# Altium footprint library SWITCH_TACT_PUSHB.PcbLib: 55 footprints (part 4 of 4)
Each footprint in its own frame and in the unit in brackets; x right, y up, seen from the top. Pads: shape width x height; smd on the part's side, far side on the other; paste and mask are expansions set on the pad; w line width, h text height; cw(c..) or ccw(c..) is an arc to the next point about the centre after c.
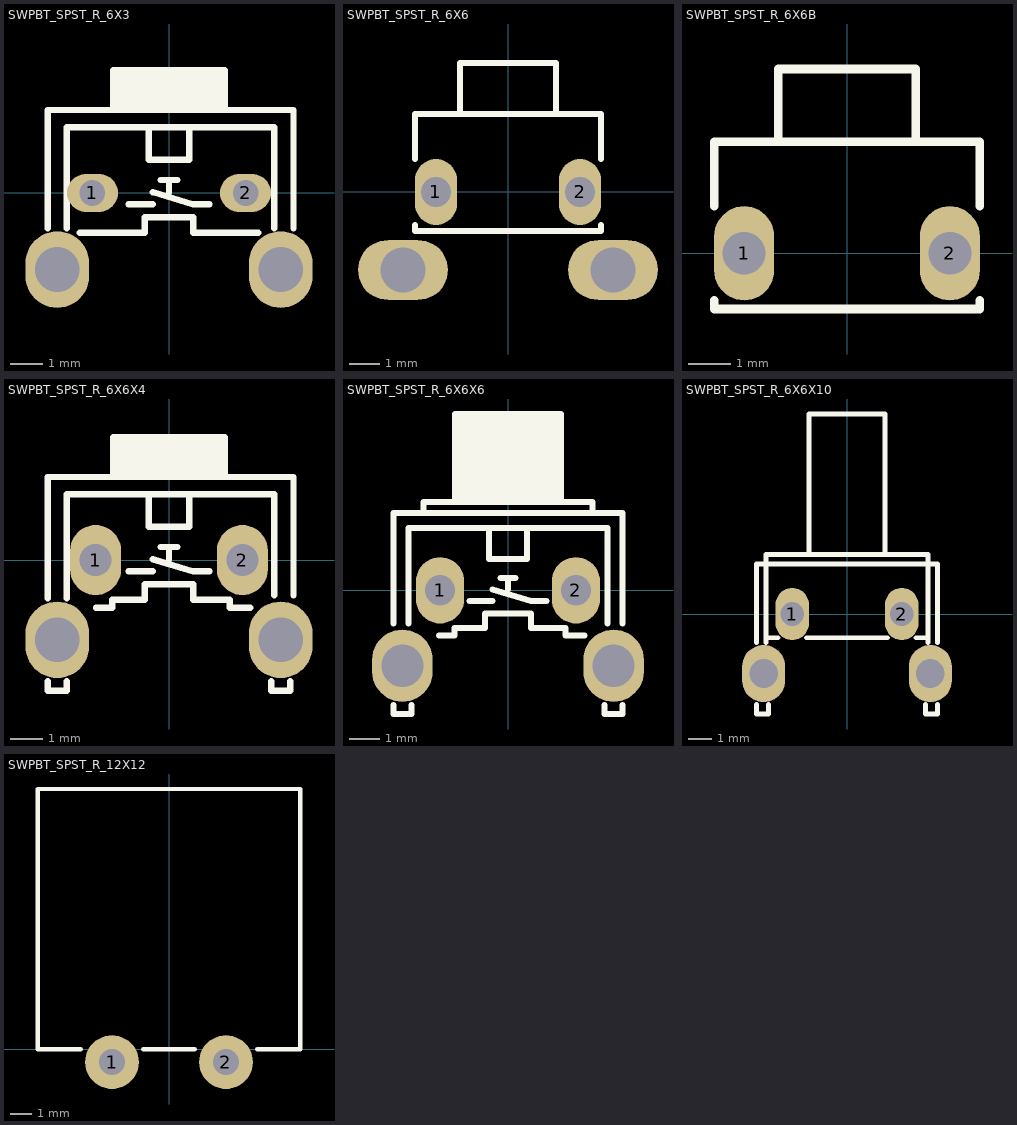
[diagram p3: the footprints below, top view; thin cyan lines are the x and y axes]

## SWPBT_SPST_R_6X3 [mm] "SWITCH, PUSHBUTTON, THD, SPST, 6X3mm;"
height 7.4
pads (4):
  oval 1.6x1.2 hole 0.8 mask+0.1: 1(-2.4,0) 2(2.4,0)
  oval 2x2.4 hole 1.4 mask+0.1: ""(-3.5,-2.4) ""(3.5,-2.4)
Top Overlay:
  region: 1.75,3.85 -1.75,3.85 -1.75,2.6 1.75,2.6
  lines w0.2: -3.8,-1.1 -3.8,2.6 3.9,2.6 3.9,-1.1 ; -3.2,-1.1 -3.2,2.057 -0.635,2.057 ; -2.8,-1.245 -0.762,-1.245 -0.762,-0.762 0.762,-0.762 0.762,-1.245 2.8,-1.245 ; -1.75,2.6 -1.75,3.85 1.75,3.85 1.75,2.6 ; -1.27,-0.356 -0.508,-0.356 ; -0.508,0.025 0.762,-0.356 1.27,-0.356 ; -0.254,0.406 0,0.406 ; 0,0.025 0,0.406 ; 0.254,0.406 0,0.406 ; 3.3,-1.1 3.3,2.057 0.635,2.057 ; -0.635,2.057 0.635,2.057 ; -0.635,2.057 -0.635,1.041 0.635,1.041 0.635,2.057
3D body "43411.stp": height 4.4, standoff -2.5, extent -4.19,-3.228 4.19,3.908

## SWPBT_SPST_R_6X6 [mm] "SWITCH, PUSHBUTTON, THD, SPST, 6X6mm, RIGHT ANGLE, FSMRA2JH, FSMRA3JH, SKHHLQA010"
pads (4):
  oval 1.4x2.2 hole 1 mask+0.1: 1(-2.4,0) 2(2.4,0)
  oval 3x2 hole 1.5 mask+0.1: ""(-3.5,-2.6) ""(3.5,-2.6)
Top Overlay:
  lines w0.2: -3.1,-1.1 -3.1,-1.3 3.1,-1.3 3.1,-1.1 ; -3.1,1.1 -3.1,2.6 3.1,2.6 3.1,1.1 ; -1.6,2.6 -1.6,4.3 1.6,4.3 1.6,2.6
3D body "User Library-TL1105 Tactile Switch 6x6 mm rightAngle.step": height 7.2, standoff -3.4, extent -4.11,-4.05 4.109,4.25

## SWPBT_SPST_R_6X6B [mm] "SWITCH, PUSHBUTTON, THD, SPST, 6X6mm, RIGHT ANGLE, TSD007A05026A03"
pads (2):
  oval 1.4x2.2 hole 1 mask+0.1: 1(-2.4,0) 2(2.4,0)
Top Overlay:
  lines w0.2: -3.1,-1.1 -3.1,-1.3 3.1,-1.3 3.1,-1.1 ; -3.1,1.1 -3.1,2.6 3.1,2.6 3.1,1.1 ; -1.6,2.6 -1.6,4.3 1.6,4.3 1.6,2.6
3D body "swpb_spst_r.step": height 6.2, standoff -4.4, extent -3,-1.1 3,4.25

## SWPBT_SPST_R_6X6X4 [mm] "SWITCH, PUSHBUTTON, THD, SPST, 6X6X3.85 mm; 1,000,000 cycles ; 0.98N Force, SKHHLMA010"
height 7.4
pads (4):
  oval 1.6x2.2 hole 1 mask+0.1: 1(-2.3,0) 2(2.3,0)
  oval 2x2.4 hole 1.4 mask+0.1: ""(-3.5,-2.5) ""(3.5,-2.5)
Top Overlay:
  region: 1.75,3.85 -1.75,3.85 -1.75,2.6 1.75,2.6
  lines w0.2: -3.8,-3.8 -3.8,-4.1 -3.2,-4.1 -3.2,-3.8 ; -3.8,-1.2 -3.8,2.6 3.9,2.6 3.9,-1.1 ; -3.2,-1.2 -3.2,2.057 -0.635,2.057 ; -2.286,-1.499 -1.778,-1.499 -1.778,-1.245 -0.762,-1.245 -0.762,-0.762 0.762,-0.762 0.762,-1.245 1.905,-1.245 1.905,-1.499 2.54,-1.499 ; -1.75,2.6 -1.75,3.85 1.75,3.85 1.75,2.6 ; -1.27,-0.356 -0.508,-0.356 ; -0.508,0.025 0.762,-0.356 1.27,-0.356 ; -0.254,0.406 0,0.406 ; 0,0.025 0,0.406 ; 0.254,0.406 0,0.406 ; 3.2,-3.8 3.2,-4.1 3.8,-4.1 3.8,-3.8 ; 3.3,-1.1 3.3,2.057 0.635,2.057 ; -0.635,2.057 0.635,2.057 ; -0.635,2.057 -0.635,1.041 0.635,1.041 0.635,2.057
3D body "SKHHLM.STEP": height 7.43, standoff -3.47, extent -4.248,-4.042 4.248,3.858

## SWPBT_SPST_R_6X6X6 [mm] "SWITCH, PUSHBUTTON, THD, SPST, 6X6X5.85mm; 1,000,000 cycles ; 0.98N Force, SKHHLUA010"
height 7.4
pads (4):
  oval 1.6x2.2 hole 1 mask+0.1: 1(-2.25,0) 2(2.25,0)
  oval 2x2.4 hole 1.4 mask+0.1: ""(-3.5,-2.5) ""(3.5,-2.5)
Top Overlay:
  region: 1.75,5.842 -1.75,5.842 -1.75,2.921 1.75,2.921
  lines w0.2: -3.8,-3.8 -3.8,-4.1 -3.2,-4.1 -3.2,-3.8 ; -3.8,-1.1 -3.8,2.565 -2.794,2.565 ; -3.3,-1.1 -3.3,2.057 -0.635,2.057 ; -2.286,-1.499 -1.778,-1.499 -1.778,-1.245 -0.762,-1.245 -0.762,-0.762 0.762,-0.762 0.762,-1.245 1.905,-1.245 1.905,-1.499 2.54,-1.499 ; -1.27,-0.356 -0.508,-0.356 ; -0.508,0.025 0.762,-0.356 1.27,-0.356 ; -0.254,0.406 0,0.406 ; 0,0.025 0,0.406 ; 0.254,0.406 0,0.406 ; 2.794,2.565 2.794,2.921 1.75,2.921 ; 3.2,-3.8 3.2,-4.1 3.8,-4.1 3.8,-3.8 ; 3.3,-1.1 3.3,2.057 0.635,2.057 ; 3.8,-1.1 3.8,2.565 -2.794,2.565 ; -2.794,2.565 -2.794,2.921 -1.75,2.921 ; -1.75,2.921 -1.75,5.842 1.75,5.842 1.75,2.921 ; -1.75,2.921 1.75,2.921 ; -0.635,2.057 -0.635,1.041 0.635,1.041 0.635,2.057 ; -0.635,2.057 0.635,2.057
3D body "SKHHLU.STEP": height 7.43, standoff -3.47, extent -4.248,-4.042 4.248,5.858

## SWPBT_SPST_R_6X6X10 [mm] "SWITCH, PUSHBUTTON, THD, SPST, 6X6mm, RIGHT ANGLE"
height 4
pads (4):
  oval 1.4x2.2 hole 1 mask+0.1: 1(-2.3,0) 2(2.3,0)
  oval 1.8x2.4 hole 1.2 mask+0.1: ""(-3.5,-2.5) ""(3.5,-2.5)
Top Overlay:
  lines w0.2: -3.8,-3.8 -3.8,-4.2 -3.3,-4.2 -3.3,-3.8 ; -3.8,-1.2 -3.8,2.1 -3.4,2.1 3.4,2.1 3.8,2.1 3.8,-1.2 ; -3.4,-1.2 -3.4,2.5 3.4,2.5 3.4,-1.2 ; -3.4,-1 -2.9,-1 ; -1.7,-1 1.7,-1 ; -1.6,2.5 -1.6,8.4 1.6,8.4 1.6,2.5 ; 2.9,-1 3.4,-1 ; 3.3,-3.8 3.3,-4.2 3.8,-4.2 3.8,-3.8
3D body "User Library-SWITCH, TACTILE, RIGHT ANGLE, 12VDC, 50MA, 8_35MM ACTUATOR, WEALTH METAL TC-0240Z.step": height 7, standoff -4, extent -3.7,-4.15 3.7,8.35

## SWPBT_SPST_R_12X12 [mm] "SWITCH, PUSHBUTTON, THD, SPST, GPTS203212B (CW) 12x12x9.1mm"
height 9
pads (2):
  round 2.5 hole 1.2 mask+0.1: 1(-2.65,-0.6) 2(2.65,-0.6)
Top Overlay:
  lines w0.2: -4.1,0 -6.1,0 -6.1,12.1 6.1,12.1 6.1,0 4.1,0 ; -1.2,0 1.2,0
3D body: height 9.1, standoff 0, extent -2.7,3.3 2.7,8.7
3D body: height 6.5, standoff 0, extent -6,0 6,12
3D body: height 3.85, standoff -1.85, extent -3.15,-0.8 -2.15,-0.4
3D body: height 3.9, standoff 3.5, extent -3.15,-0.8 -2.15,0
3D body: height 3.9, standoff 3.5, extent 2.15,-0.8 3.15,0
3D body: height 3.85, standoff -1.85, extent 2.15,-0.8 3.15,-0.4